# EAGLE library part MKDS08 (library con-phoenix-508)
Screw Connector
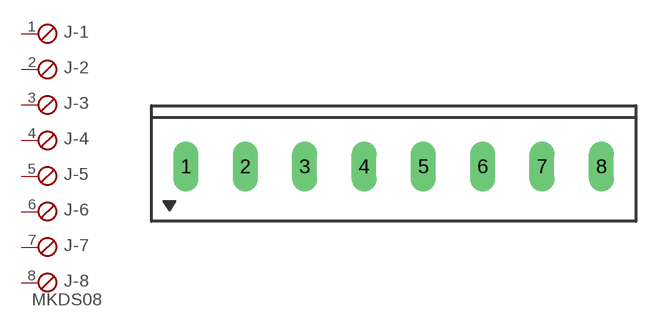
[diagram p67: symbol with the pads of MKDS08; footprint MKDS08]

Designator prefix J; gates -1=STB -2=STB -3=STB -4=STB -5=STB -6=STB -7=STB -8=STBV

## MKDS08  [MKDS08]
1  -1:1  pas
2  -2:1  pas
3  -3:1  pas
4  -4:1  pas
5  -5:1  pas
6  -6:1  pas
7  -7:1  pas
8  -8:1  pas

## Footprint MKDS08 (pad centres in mm)
MKDS 5.08 mm pitch
drill 1.422 long: 1 -17.78,0; 2 -12.7,0; 3 -7.62,0; 4 -2.54,0; 5 2.54,0; 6 7.62,0; 7 12.7,0; 8 17.78,0